# Altium schematic symbol library IC-Opamp.SchLib: 5 symbols
Pins are listed as number, name and electrical type; pins without a type are passive.

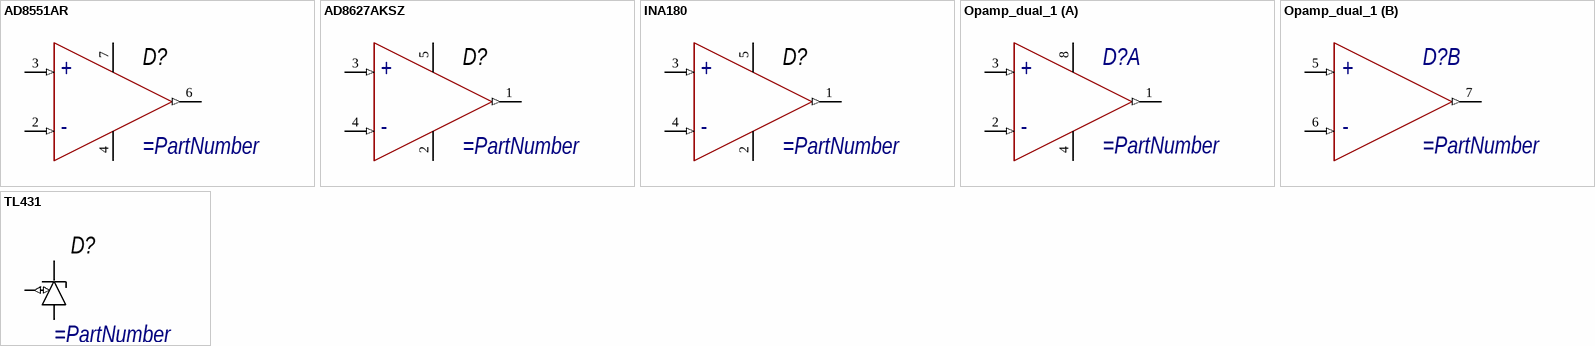
[diagram p0: symbols AD8551AR to TL431]

## AD8551AR
designator D?
pins: 2 In1- (in), 3 In1+ (in), 4 V- (power), 6 Out1 (out), 7 V+ (power)
text: +; -

## AD8627AKSZ
designator D?
pins: 1 Out1 (out), 2 V- (power), 3 In1+ (in), 4 In1- (in), 5 V+ (power)
text: +; -

## INA180
designator D?
pins: 1 Out1 (out), 2 V- (power), 3 In1+ (in), 4 In1- (in), 5 V+ (power)
text: +; -

## Opamp_dual_1
designator D?
Dual opamp, P+8 P-4
part A pins: 1 Out1 (out), 2 In1- (in), 3 In1+ (in), 4 V- (power), 8 V+ (power)
part B pins: 5 In2+ (in), 6 In2- (in), 7 Out2 (out)
part A text: +; -
part B text: +; -

## TL431
designator D?
pins: 1 C, 2 R (io), 3 A